# Altium integrated library Compute Module.IntLib: 1 symbol
Pins are listed as number, name and electrical type; pins without a type are passive.

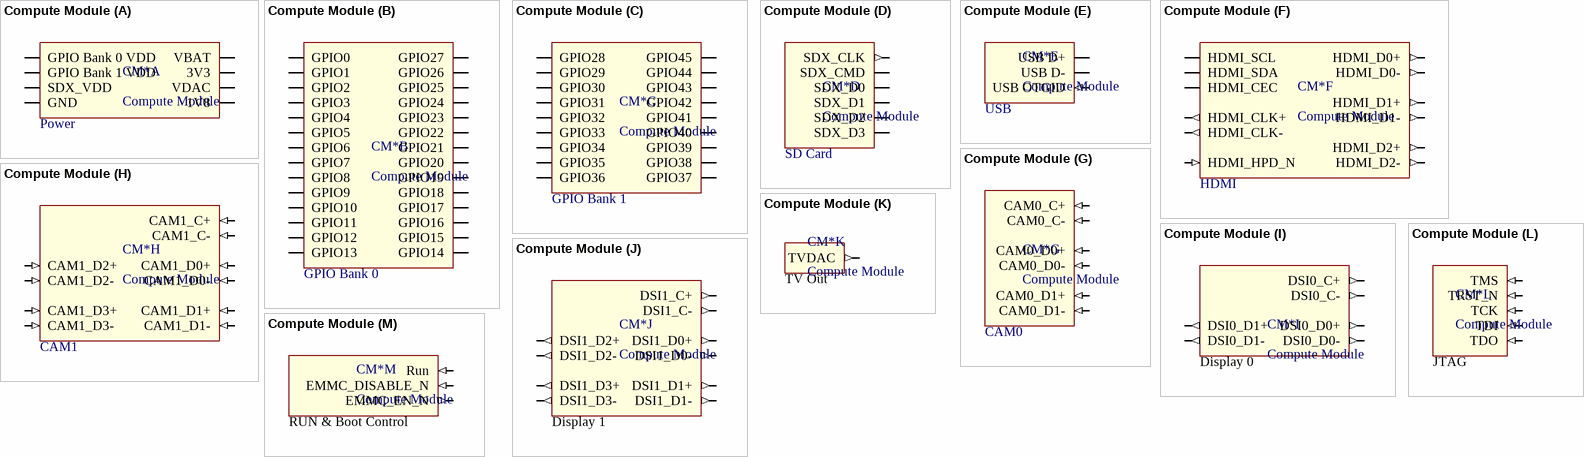
[diagram p0: symbol Compute Module]

## Compute Module
designator CM*
Raspberry Pi Compute Module
footprint 1473005-4
part A pins: 1 GND (power), 4 SDX_VDD (power) "1.8V - 3.3V +/- 5%", 6 SDX_VDD (power) "1.8V - 3.3V +/- 5%", 7 GND (power), 8 GND (power), 13 GND (power), 14 GND (power), 19 GND (power), 20 GND (power), 25 GND (power), 26 GND (power), 31 GND (power), 32 GND (power), 37 GND (power), 38 GND (power), 39 GPIO Bank 0 VDD (power) "1.8V - 3.3V +/- 5%", 40 GPIO Bank 0 VDD (power) "1.8V - 3.3V +/- 5%", 41 GPIO Bank 1 VDD (power) "1.8V - 3.3V +/- 5%", 42 GPIO Bank 1 VDD (power) "1.8V - 3.3V +/- 5%", 43 GND (power), 44 GND (power), 49 GND (power), 50 GND (power), 55 GND (power), 56 GND (power), 61 GND (power), 62 GND (power), 67 GND (power), 68 GND (power), 73 GND (power), 74 GND (power), 79 GND (power), 80 GND (power), 85 GND (power), 86 GND (power), 91 GND (power), 92 GND (power), 97 GND (power), 98 GND (power), 103 GND (power), 104 GND (power), 109 GND (power), 110 GND (power), 115 GND (power), 116 GND (power), 121 GND (power), 122 GND (power), 127 GND (power), 133 GND (power), 134 GND (power), 139 GND (power), 140 GND (power), 145 GND (power), 146 GND (power), 151 GND (power), 152 GND (power), 157 GND (power), 163 GND (power), 164 GND (power), 169 GND (power), 170 GND (power), 181 GND (power), 182 GND (power), 183 1V8 (power) "1.8V +/- 5%", 184 1V8 (power) "1.8V +/- 5%", 185 1V8 (power) "1.8V +/- 5%", 186 1V8 (power) "1.8V +/- 5%", 187 GND (power), 188 GND (power), 189 VDAC (power) "2.5V - 2.8V if DAC used, else 3.3V +/- 5%", 190 VDAC (power) "2.5V - 2.8V if DAC used, else 3.3V +/- 5%", 191 3V3 (power) "3.3V +/- 5%", 192 3V3 (power) "3.3V +/- 5%", 193 3V3 (power) "3.3V +/- 5%", 194 3V3 (power) "3.3V +/- 5%", 195 GND (power), 196 GND (power), 197 VBAT (power) "2.5V - 5.25V", 198 VBAT (power) "2.5V - 5.25V", 199 VBAT (power) "2.5V - 5.25V", 200 VBAT (power) "2.5V - 5.25V"
part B pins: 3 GPIO0 (io), 5 GPIO1 (io), 9 GPIO2 (io), 11 GPIO3 (io), 15 GPIO4 (io), 17 GPIO5 (io), 21 GPIO6 (io), 23 GPIO7 (io), 27 GPIO8 (io), 29 GPIO9 (io), 33 GPIO10 (io), 35 GPIO11 (io), 45 GPIO12 (io), 47 GPIO13 (io), 51 GPIO14 (io), 53 GPIO15 (io), 57 GPIO16 (io), 59 GPIO17 (io), 63 GPIO18 (io), 65 GPIO19 (io), 69 GPIO20 (io), 71 GPIO21 (io), 75 GPIO22 (io), 77 GPIO23 (io), 81 GPIO24 (io), 83 GPIO25 (io), 87 GPIO26 (io), 89 GPIO27 (io)
part C pins: 28 GPIO28 (io), 30 GPIO29 (io), 34 GPIO30 (io), 36 GPIO31 (io), 46 GPIO32 (io), 48 GPIO33 (io), 52 GPIO34 (io), 54 GPIO35 (io), 58 GPIO36 (io), 60 GPIO37 (io), 64 GPIO38 (io), 66 GPIO39 (io), 70 GPIO40 (io), 72 GPIO41 (io), 76 GPIO42 (io), 78 GPIO43 (io), 82 GPIO44 (io), 84 GPIO45 (io)
part D pins: 10 SDX_CLK (out), 12 SDX_CMD (io), 16 SDX_D0 (io), 18 SDX_D1 (io), 22 SDX_D2 (io), 24 SDX_D3 (io)
part E pins: 165 USB D+ (io), 167 USB D- (io), 168 USB OTGID (in)
part F pins: 88 HDMI_HPD_N (in), 111 HDMI_CLK- (out), 113 HDMI_CLK+ (out), 117 HDMI_D0- (out), 119 HDMI_D0+ (out), 123 HDMI_D1- (out), 125 HDMI_D1+ (out), 129 HDMI_D2- (out), 131 HDMI_D2+ (out), 171 HDMI_CEC (io), 173 HDMI_SDA (io), 175 HDMI_SCL (io)
part G pins: 136 CAM0_D0+ (in), 138 CAM0_D0- (in), 142 CAM0_C+ (in), 144 CAM0_C- (in), 148 CAM0_D1+ (in), 150 CAM0_D1- (in)
part H pins: 135 CAM1_D3+ (in), 137 CAM1_D3- (in), 141 CAM1_D2+ (in), 143 CAM1_D2- (in), 147 CAM1_C+ (in), 149 CAM1_C- (in), 153 CAM1_D1+ (in), 155 CAM1_D1- (in), 159 CAM1_D0+ (in), 161 CAM1_D0- (in)
part I pins: 93 DSI0_D1- (out), 95 DSI0_D1+ (out), 99 DSI0_D0- (out), 101 DSI0_D0+ (out), 105 DSI0_C- (out), 107 DSI0_C+ (out)
part J pins: 94 DSI1_D0+ (out), 96 DSI1_D0- (out), 100 DSI1_C+ (out), 102 DSI1_C- (out), 106 DSI1_D3+ (out), 108 DSI1_D3- (out), 112 DSI1_D2+ (out), 114 DSI1_D2- (out), 118 DSI1_D1+ (out), 120 DSI1_D1- (out)
part K pins: 166 TVDAC (out)
part L pins: 172 TRST_N (in), 174 TDI (in), 176 TMS (in), 178 TDO (in), 180 TCK (in)
part M pins: 2 EMMC_DISABLE_N (in), 90 EMMC_EN_N (out), 177 Run (in)
part A text: Power
part B text: GPIO Bank 0
part C text: GPIO Bank 1
part D text: SD Card
part E text: USB
part F text: HDMI
part G text: CAM0
part H text: CAM1
part I text: Display 0
part J text: Display 1
part K text: TV Out
part L text: JTAG
part M text: RUN & Boot Control